# Altium footprint library My Library.PcbLib: 161 footprints (part 9 of 11)
Each footprint in its own frame and in the unit in brackets; x right, y up, seen from the top. Pads: shape width x height; smd on the part's side, far side on the other; paste and mask are expansions set on the pad; w line width, h text height; cw(c..) or ccw(c..) is an arc to the next point about the centre after c.
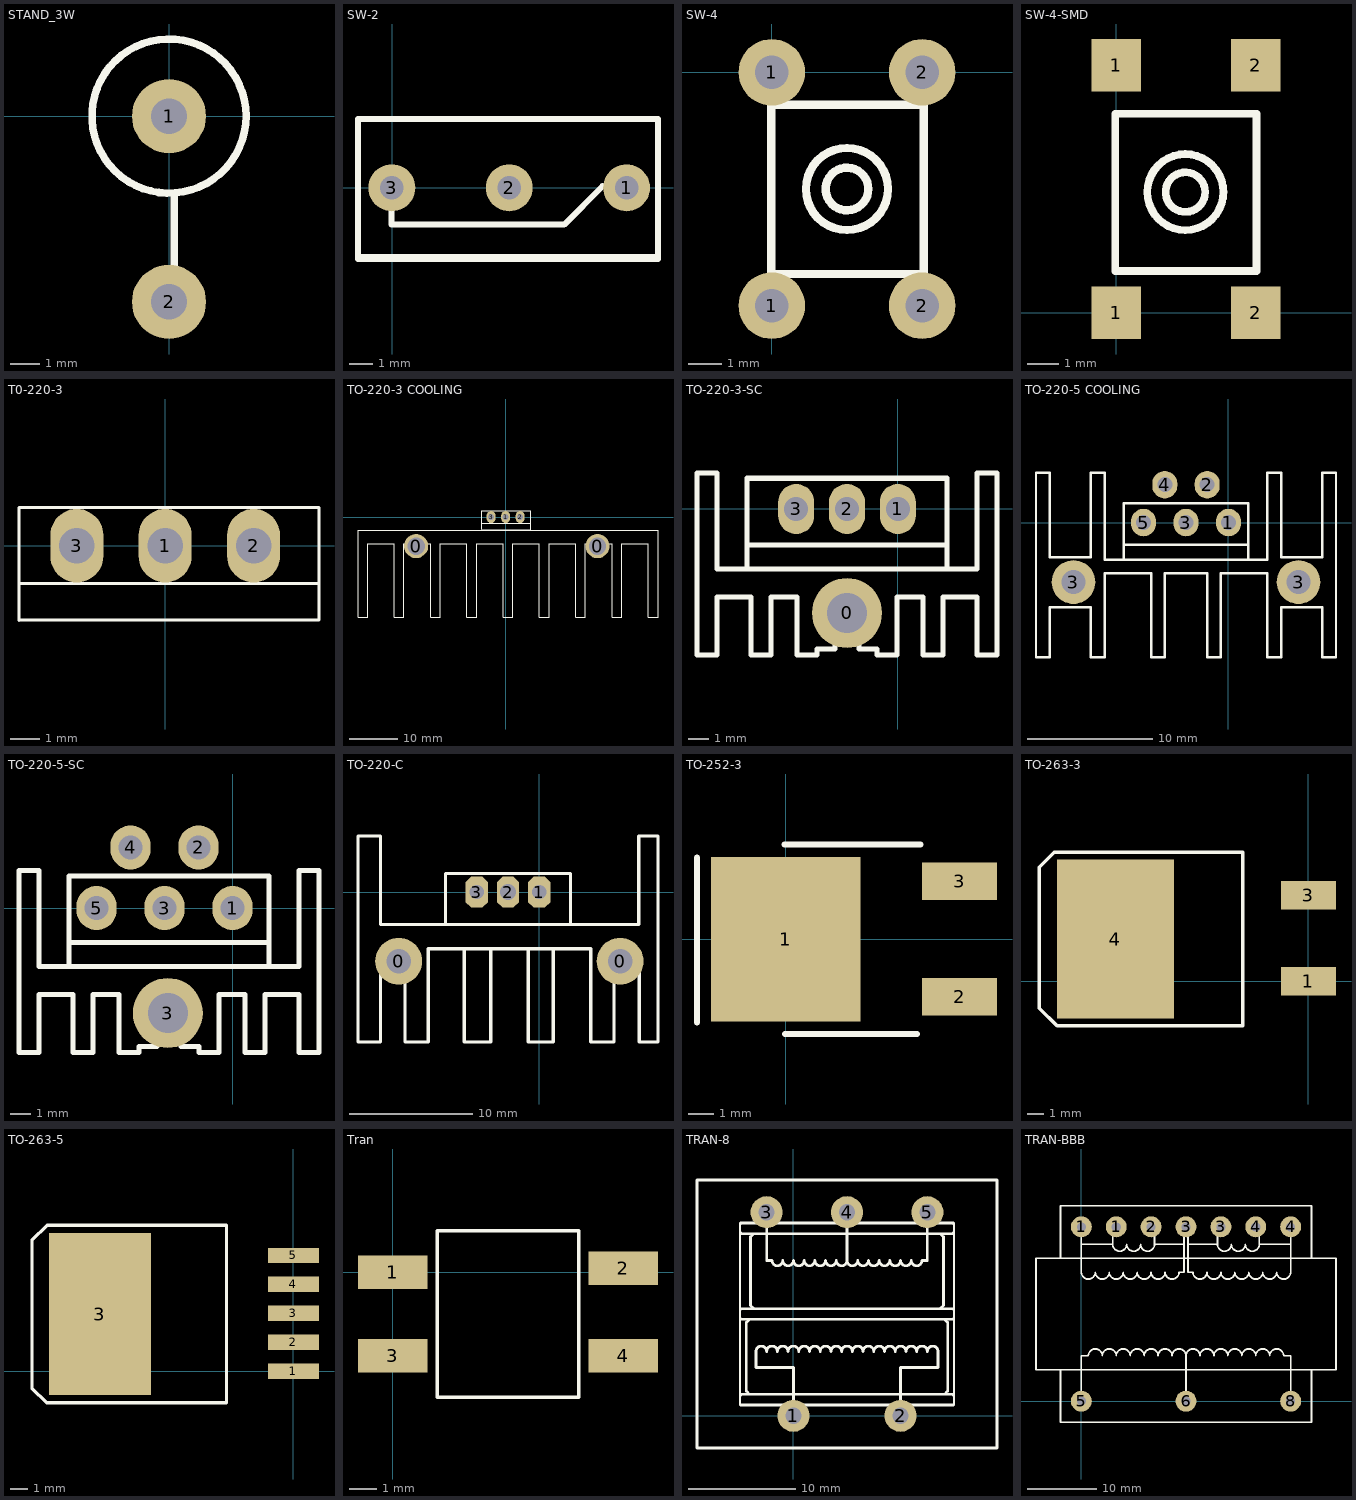
[diagram p8: the footprints below, top view; thin cyan lines are the x and y axes]

## STAND_3W [mm]
pads (2):
  round 2.5 hole 1.2 unplated: 1(0,0) 2(0,-6.268)
Top Overlay:
  circle w0.254: c0,0 r2.6
  lines w0.254: 0.172,-5.252 0.172,-2.712

## SW-2 [mm]
pads (3):
  round 2 hole 1: 1(9.99,0) 2(4.994,0) 3(-0.006,0)
Top Overlay:
  lines w0.25: -1.42,-2.95 11.25,-2.95 ; -0.02,-0.42 -0.02,-1.57 7.33,-1.57 8.97,0.07 ; -1.45,-3.03 -1.45,2.93 11.33,2.93 11.33,-3.03 -1.45,-3.03

## SW-4 [mm]
height 10
pads (4):
  round 2 hole 1: 1(0,-7) 1(0,0) 2(4.51,-7) 2(4.51,0)
Top Overlay:
  circle w0.25: c2.254,-3.5 r0.64
  circle w0.25: c2.254,-3.5 r1.23
  lines w0.25: -0.016,-6.05 4.554,-6.05 4.554,-0.97 -0.016,-0.97 -0.016,-6.01

## SW-4-SMD [mm]
height 10
pads (4):
  rect 1.6x1.7 smd: 1(0,0) 1(0,8) 2(4.5,0) 2(4.5,8)
Top Overlay:
  circle w0.25: c2.229,3.9 r1.23
  circle w0.25: c2.229,3.9 r0.64
  lines w0.25: -0.041,1.35 4.529,1.35 4.529,6.43 -0.041,6.43 -0.041,1.39

## T0-220-3 [mm]
pads (3):
  oval 1.8x2.5 hole 1.2: 1(0,0) 2(3,0) 3(-3,0)
Top Overlay:
  lines w0.1: -4.961,-2.538 -4.961,1.294 5.22,1.294 5.22,-2.525 -4.95,-2.525 ; -4.919,-1.289 5.157,-1.289

## TO-220-3 COOLING [mm]
height 5
pads (5):
  round 5 hole 3.6: 0(-18.5,-6) 0(19,-6)
  oval 1.8x2.5 hole 1.2: 1(0,0) 2(3,0) 3(-3,0)
Top Overlay:
  lines w0.1: -21,-5.5 -15.5,-5.5 -15.5,-20.7 -13.5,-20.7 -13.5,-5.5 -8,-5.5 -8,-20.7 -6,-20.7 -6,-5.5 -0.5,-5.5 -0.5,-20.7 1.5,-20.7 1.5,-5.5 7,-5.5 7,-20.7 9,-20.7 9,-5.5 ; -21,-5.5 -21,-20.7 -23,-20.7 -23,-5.5 -28.5,-5.5 -28.5,-20.7 -30.5,-20.7 -30.5,-2.7 31.5,-2.7 31.5,-20.7 29.5,-20.7 29.5,-5.5 24,-5.5 ; -4.961,-2.58 5.22,-2.58 5.22,1.294 -4.961,1.294 -4.961,-2.538 ; -4.919,-1.289 5.157,-1.289 ; 9.01,-5.5 14.51,-5.5 14.51,-20.7 16.51,-20.7 16.51,-5.5 22.01,-5.5 22.01,-20.7 24.01,-20.7 24.01,-5.5

## TO-220-3-SC [mm]
height 20
pads (4):
  round 3.5 hole 2: 0(-2.54,-5.2)
  oval 1.8x2.5 hole 1.2: 1(0,0) 2(-2.54,0) 3(-5.08,0)
Top Overlay:
  lines w0.2: -3.141,-5.601 cw(c-2.54,-5) -3.141,-4.399 ; -1.939,-5.601 ccw(c-2.54,-5) -1.939,-4.399
  lines w0.254: -7.54,-3 -7.54,1.537 2.46,1.537 2.46,-3 ; -7.54,-1.8 2.46,-1.8 ; -3.14,-5.6 -3.14,-7 -4.04,-7 -4.04,-7.3 -5.04,-7.3 -5.04,-4.4 -6.34,-4.4 -6.34,-7.3 -7.34,-7.3 -7.34,-4.4 -9.04,-4.4 -9.04,-7.3 -10.04,-7.3 -10.04,1.8 -9.04,1.8 -9.04,-3 3.96,-3 3.96,1.8 4.96,1.8 4.96,-7.3 3.96,-7.3 3.96,-4.4 2.26,-4.4 2.26,-7.3 1.26,-7.3 1.26,-4.4 -0.04,-4.4 -0.04,-7.3 -1.04,-7.3 -1.04,-7 -1.94,-7 -1.94,-5.6 ; -3.14,-4.4 -1.94,-4.4

## TO-220-5 COOLING [mm]
height 5
pads (7):
  oval 2x2.2 hole 1.2: 1(0,0) 2(-1.7,3.031) 3(-3.4,0) 4(-5.1,3.031) 5(-6.8,0)
  round 3.5 hole 1.9: 3(-12.4,-4.763) 3(5.6,-4.763)
Top Overlay:
  lines w0.2: -8.4,-2.963 -8.4,1.537 1.6,1.537 1.6,-2.963 ; -8.4,-1.763 1.6,-1.763 ; -15.4,-10.762 -14.3,-10.762 -14.3,-6.762 -11,-6.762 -11,-10.762 -9.9,-10.762 -9.9,-4.063 -6.2,-4.063 -6.2,-10.762 -5.1,-10.762 -5.1,-4.063 -1.7,-4.063 -1.7,-10.762 -0.6,-10.762 -0.6,-4.063 3.1,-4.063 3.1,-10.762 4.2,-10.762 4.2,-6.762 7.5,-6.762 7.5,-10.762 8.6,-10.762 8.6,4 7.5,4 7.5,-2.763 4.2,-2.763 4.2,4 3.1,4 3.1,-2.963 -9.9,-2.963 -9.9,4 -11,4 -11,-2.763 -14.3,-2.763 -14.3,4 -15.4,4 -15.4,-10.762

## TO-220-5-SC [mm]
height 20
pads (6):
  oval 2x2.2 hole 1.2: 1(0,0) 2(-1.7,3.031) 3(-3.4,0) 4(-5.1,3.031) 5(-6.8,0)
  round 3.5 hole 2: 3(-3.234,-5.248)
Top Overlay:
  lines w0.2: -3.779,-5.526 cw(c-3.178,-4.925) -3.779,-4.324 ; -2.577,-5.526 ccw(c-3.178,-4.925) -2.577,-4.324
  lines w0.254: -8.178,-2.925 -8.178,1.612 1.822,1.612 1.822,-2.925 ; -8.178,-1.725 1.822,-1.725 ; -3.778,-5.525 -3.778,-6.925 -4.678,-6.925 -4.678,-7.225 -5.678,-7.225 -5.678,-4.325 -6.978,-4.325 -6.978,-7.225 -7.978,-7.225 -7.978,-4.325 -9.678,-4.325 -9.678,-7.225 -10.678,-7.225 -10.678,1.875 -9.678,1.875 -9.678,-2.925 3.322,-2.925 3.322,1.875 4.322,1.875 4.322,-7.225 3.322,-7.225 3.322,-4.325 1.622,-4.325 1.622,-7.225 0.622,-7.225 0.622,-4.325 -0.678,-4.325 -0.678,-7.225 -1.678,-7.225 -1.678,-6.925 -2.578,-6.925 -2.578,-5.525 ; -3.778,-4.325 -2.578,-4.325

## TO-220-C [mm]
height 5
pads (5):
  round 3.81 hole 2: 0(-11.429,-5.614) 0(6.572,-5.614)
  oct 1.8x2.54 hole 1.143: 1(0,0) 3(-5.08,0)
  oct 1.8x2.54 hole 1.321: 2(-2.54,0)
Top Overlay:
  lines w0.254: -14.417,-12.192 -12.917,-12.192 ; -14.224,4.572 -14.732,4.572 ; -12.917,3.265 -12.917,2.88 ; -7.62,-2.62 -7.62,1.524 2.54,1.524 2.54,-2.54 ; -6.096,-12.192 -6.096,-4.604 ; -5.973,-12.192 -3.941,-12.192 -3.941,-4.727 ; -0.893,-4.695 -0.893,-12.192 1.139,-12.192 1.139,-4.727 ; 8.083,3.048 8.083,4.572 ; 8.083,3.319 8.083,2.88 8.083,-2.62 -12.917,-2.62 -12.917,2.88 ; 8.128,-6.172 8.083,-6.128 8.083,-5.452 7.235,-4.604 6.083,-5.756 6.083,-12.192 4.187,-12.192 4.187,-4.604 -9.021,-4.604 -9.021,-12.192 -10.917,-12.192 -10.917,-5.756 -12.069,-4.604 -12.917,-5.452 -12.917,-7.144 -12.917,-12.192 ; 8.128,-6.096 8.128,-12.192 9.583,-12.192 ; 8.128,4.572 8.083,4.572 ; 9.652,-12.192 9.652,4.572 8.083,4.572 ; -14.732,4.572 -14.732,-12.192 -12.917,-12.192 ; -14.732,4.572 -12.917,4.572 -12.917,2.88
3D body: height 12, standoff -3, extent -13.325,-7.486 -9.54,-3.693
3D body: height 12, standoff -3, extent 4.667,-7.493 8.452,-3.701
3D body: height 18.54, standoff -3.81, extent -7.62,-2.965 2.54,1.607
3D body: height 40, standoff 0, extent -14.84,-12.193 9.66,4.607

## TO-252-3 [mm]
height 2
pads (3):
  rect 6x6.6 smd: 1(0,0)
  rect 3x1.5 smd: 2(6.964,-2.3) 3(6.964,2.323)
Top Overlay:
  lines w0.254: -3.552,-3.327 -3.552,3.277 ; -0.047,3.793 5.389,3.793 ; -0.021,-3.796 0.614,-3.796 5.262,-3.796
3D body: height 3, standoff 0, extent -2.525,-3.3 5.9,3.35

## TO-263-3 [mm]
height 6
pads (3):
  rect 3.3x1.7 smd: 1(0,0) 3(0,5.15)
  rect 7x9.5 smd: 4(-11.54,2.53)
Top Overlay:
  lines w0.2: -3.94,7.723 -15.201,7.723 -16.09,6.834 -16.09,-1.596 -15.034,-2.652 -3.936,-2.652 -3.936,7.723

## TO-263-5 [mm]
height 5
pads (6):
  rect 3x0.9 smd: 1(0,0) 2(0,1.7) 3(0,3.4) 4(0,5.1) 5(0,6.8)
  rect 6x9.5 smd: 3(-11.379,3.353)
Top Overlay:
  lines w0.2: -3.937,8.582 -12.7,8.582 -14.478,8.582 -15.367,7.693 -15.367,-1.012 -14.511,-1.868 -12.827,-1.868 -3.933,-1.868 -3.933,8.582
3D body: height 4, standoff 0, extent -14.375,-1.875 -3.925,8.575

## Tran [mm]
pads (4):
  rect 2.5x1.2 smd: 1(0,0) 2(8.3,0.15) 3(0,-3) 4(8.3,-3)
Top Overlay:
  lines w0.127: 1.6,-4.5 1.6,1.5 6.7,1.5 6.7,-4.5 1.6,-4.5

## TRAN-8 [mm]
height 25
pads (5):
  round 3 hole 1.5: 1(0,0) 2(10,0) 3(-2.5,19) 4(5,19) 5(12.5,19)
Top Overlay:
  lines w0.2: -5,1 -5,18 ; -5,1.8 -4.8,2 ; -5,9.2 -4.8,9 ; -5,9.8 -4.8,10 ; -5,17.2 -4.8,17 ; -5,17.8 -4.8,18 ; 14.8,2 15,1.8 ; 14.8,9 15,9.2 ; 14.8,10 15,9.8 ; 14.8,17 15,17.2 ; 14.8,18 15,17.8 ; 15,1 15,18
  lines w0.254: -4.95,1 14.95,1 ; -4.95,18 14.95,18 ; -4.8,2 -3.7,2 13.8,2 14.8,2 ; -4.8,9 -3.7,9 13.8,9 14.8,9 ; -4.8,10 -4.7,10 -3.7,10 ; -4.8,17 -3.7,17 ; -4.1,2 -4.4,2.3 -4.4,5.5 -4.4,8.6 -4.4,8.7 -4.1,9 ; -2.5,18.1 -2.5,14.5 -2,14.5 ccw(c-1.5,14.5) -1,14.5 ccw(c-0.5,14.5) 0,14.5 ccw(c0.5,14.5) 1,14.5 ccw(c1.5,14.5) 2,14.5 ccw(c2.5,14.5) 3,14.5 ccw(c3.5,14.5) 4,14.5 ccw(c4.5,14.5) 5,14.5 ; 0,0.9 0,4.5 -3.5,4.5 -3.5,6 cw(c-3,6) -2.5,6 cw(c-2,6) -1.5,6 cw(c-1,6) -0.5,6 cw(c0,6) 0.5,6 cw(c1,6) 1.5,6 cw(c2,6) 2.5,6 cw(c3,6) 3.5,6 cw(c4,6) 4.5,6 cw(c5,6) 5.5,6 cw(c6,6) 6.5,6 cw(c7,6) 7.5,6 cw(c8,6) 8.5,6 cw(c9,6) 9.5,6 cw(c10,6) 10.5,6 cw(c11,6) 11.5,6 cw(c12,6) 12.5,6 cw(c13,6) 13.5,6 13.5,4.5 10,4.5 10,0.9 ; 5,18.2 5,14.5 ; 12.5,18.1 12.5,14.5 12,14.5 cw(c11.5,14.5) 11,14.5 cw(c10.5,14.5) 10,14.5 cw(c9.5,14.5) 9,14.5 cw(c8.5,14.5) 8,14.5 cw(c7.5,14.5) 7,14.5 cw(c6.5,14.5) 6,14.5 cw(c5.5,14.5) 5,14.5 ; 13.7,10 14,10.3 14,13.5 14,16.7 13.7,17 ; 14.1,2 14.4,2.3 14.4,2.4 14.4,5.5 14.4,8.7 14.1,9 ; 14.8,10 13.8,10 -3.7,10 ; 14.8,17 13.8,17 -3.7,17 ; -3.7,10 -4,10.3 -4,14.5 -4,16.7 -3.7,17 ; -9,-3 -9,22 19,22 19,-3 -9,-3

## TRAN-BBB [mm]
pads (10):
  round 3 hole 1.3: 1(0,25) 1(5,25) 2(10,25) 3(15,25) 3(20,25) 4(25,25) 4(30,25) 5(0,0) 6(15,0) 8(30,0)
Top Overlay:
  lines w0.254: -3,4.5 -3,-3 33,-3 33,4.5 ; -3,20.5 -3,28 33,28 33,20.5 ; 0,0.7 0,6.5 1,6.5 cw(c2,6.5) 3,6.5 cw(c4,6.5) 5,6.5 cw(c6,6.5) 7,6.5 cw(c8,6.5) 9,6.5 cw(c10,6.5) 11,6.5 cw(c12,6.5) 13,6.5 cw(c14,6.5) 15,6.5 ; 0,22.5 4.5,22.5 ; 0,24.3 0,18.5 ccw(c1,18.5) 2,18.5 ccw(c3,18.5) 4,18.5 ccw(c5,18.5) 6,18.5 ccw(c7,18.5) 8,18.5 ccw(c9,18.5) 10,18.5 ccw(c11,18.5) 12,18.5 ccw(c13,18.5) 14,18.5 14.7,18.5 14.7,24.3 ; 4.5,24.5 4.5,22.5 ; 10.5,24.5 10.5,22.5 ; 14.7,22.5 10.5,22.5 ; 15,0.7 15,6.5 ; 15.3,22.5 19.5,22.5 ; 15.3,24.3 15.3,18.5 16,18.5 ccw(c17,18.5) 18,18.5 ccw(c19,18.5) 20,18.5 ccw(c21,18.5) 22,18.5 ccw(c23,18.5) 24,18.5 ccw(c25,18.5) 26,18.5 ccw(c27,18.5) 28,18.5 ccw(c29,18.5) 30,18.5 30,24.3 ; 19.5,24.6 19.5,22.5 ; 25.5,24.6 25.5,22.5 ; 30,0.7 30,6.5 29,6.5 ccw(c28,6.5) 27,6.5 ccw(c26,6.5) 25,6.5 ccw(c24,6.5) 23,6.5 ccw(c22,6.5) 21,6.5 ccw(c20,6.5) 19,6.5 ccw(c18,6.5) 17,6.5 ccw(c16,6.5) 15,6.5 ; 30,22.5 25.5,22.5 ; 4.5,22.5 ccw(c5.5,22.5) 6.5,22.5 ccw(c7.5,22.5) 8.5,22.5 ccw(c9.5,22.5) 10.5,22.5 ; 19.5,22.5 ccw(c20.5,22.5) 21.5,22.5 ccw(c22.5,22.5) 23.5,22.5 ccw(c24.5,22.5) 25.5,22.5 ; -6.5,4.5 36.5,4.5 36.5,20.5 -6.5,20.5 -6.5,4.5